# EAGLE library part MOLEX-SD-53398-0471 (library molex-custom)
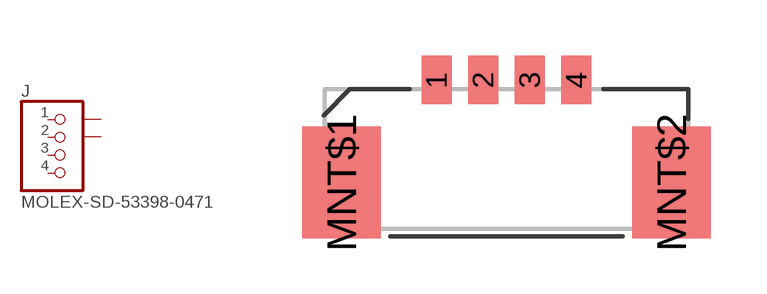
[diagram p4: symbol with the pads of MOLEX-SD-53398-0471; footprint MOLEX-SD-53398-0471]

Designator prefix J

## MOLEX-SD-53398-0471  [MOLEX-SD-53398-0471]
1  1  pas
2  2  pas
3  3  pas
4  4  pas
MNT$1  MNT$1  pwr
MNT$2  MNT$2  pwr

## Footprint MOLEX-SD-53398-0471 (pad centres in mm)
1.25mm Pitch PicoBlade™ Header, Surface Mount, Vertical, 4 Circuits
smd 0.8 x 1.3: 1 -1.875,2.75; 2 -0.625,2.75; 3 0.625,2.75; 4 1.875,2.75
smd 2.1 x 3: MNT$1 -4.425,0; MNT$2 4.425,0